# EAGLE library part CL-SB-22A-02T (library CL-SB-22A-02T)
Slide Switch DPDT Surface Mount Check availability <https://pricing.snapeda.com/parts/CL-SB-22A-02T/Nidec%20Copal%20Electronics/view-part?ref=eda>
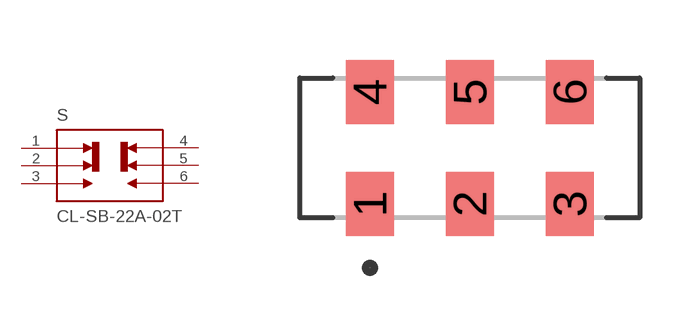
[diagram p0: symbol with the pads of SW_CL-SB-22A-02T; footprint SW_CL-SB-22A-02T]

Designator prefix S

## CL-SB-22A-02T (Availability: In Stock; Description: Slide Switch DPDT Surface Mount; MF: Nidec Copal Electronics; MP: CL-SB-22A-02T; Package: None; Price: None; Purchase-URL: https://pricing.snapeda.com/search?q=CL-SB-22A-02T&ref=eda)  [SW_CL-SB-22A-02T]
1  NC1  pas
2  COM1  pas
3  NO1  pas
4  NC2  pas
5  COM2  pas
6  NO2  pas

## Footprint SW_CL-SB-22A-02T (pad centres in mm)
smd 1.2 x 1.6: 1 -2.5,-1.4; 2 0,-1.4; 3 2.5,-1.4; 4 -2.5,1.4; 5 0,1.4; 6 2.5,1.4